# Altium schematic symbol library 0732512120.SchLib: 1 symbol
Pins are listed as number, name and electrical type; pins without a type are passive.

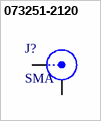
[diagram p0: symbol 073251-2120]

## 073251-2120
designator J?, comment SMA
Conn SMA RCP 50Ohm Solder ST Edge Mount Gold; Manufacturer: Molex; Manufacturer Part Number: 073251-2120; Body Material: Brass; Dielectric Material: PTFE; Impedance: 50R; Max Frequency: 18GHz; Voltage Rating: 500V; Supplier 1: Digikey; Stock 1: 2354; Pricing 1: 1=3.47, 10=3.328, 25=3.0504, 50=2.9118, 100=2.7732, 250=2.4266, 500=2.3572, 1000=2.0106, 2500=1.8719 (USD); Case/Package: SMA; Contact Plating: Gold; Contact Material: Copper; Body Plating: Gold; Housing Colour: Gold; Insulation Material: Polytetrafluoroethylene; Min Operating Temperature: -65°C; Max Operating Temperature: 165°C; Packaging: Tray; Package Quantity: 1600; Termination: Solder; Fastening Type: Threaded; Length: 16.26mm; Height: 6.35mm; Width: 6.35mm; Depth: 16.26mm; Radiation Hardening: No; ComponentLink1URL: http://www.molex.com/molex/products/datasheet.jsp?part=active/0732512120_RF_COAX_CONNECTORS.xml&channel=Products&Lang=en-US; ComponentLink1Description: Product Page; ComponentLink2URL: http://www.molex.com/pdm_docs/sd/732512120_sd.pdf; ComponentLink2Description: Drawing; Supplier Part Number 1: WM5536-ND
footprint 073251-2120 (CONN SMA JACK EDGE)
pins: 1 Signal "RF signal", 2 GND "Ground signal"